# Altium schematic symbol library 2021-04-30_19-55-28.SchLib: 2 symbols
Pins are listed as number, name and electrical type; pins without a type are passive.

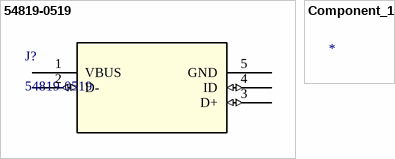
[diagram p0: symbols 54819-0519 to Component_1]

## 54819-0519
designator J?
No Description Available; Vendor: Molex Connector Corporation; Built_By: EMA_Cory; SourceLibrary: Add_to_database_2021-03-17; Datasheet: https://www.molex.com/pdm_docs/sd/548190519_sd.pdf; Manufacturer_Part_Number: 54819-0519; Copyright: Copyright (C) 2018 Accelerated Designs. All rights reserved; RefDes: RefDes; Type: DEV
footprint 54819-0519_MOL
pins: 1 VBUS (power), 2 D- (io), 3 D+ (io), 4 ID (io), 5 GND

## Component_1
designator *  (value not drawn)